# Altium footprint library PcbLib1.PcbLib: 18 footprints (part 1 of 2)
Each footprint in its own frame and in the unit in brackets; x right, y up, seen from the top. Pads: shape width x height; smd on the part's side, far side on the other; paste and mask are expansions set on the pad; w line width, h text height; cw(c..) or ccw(c..) is an arc to the next point about the centre after c.
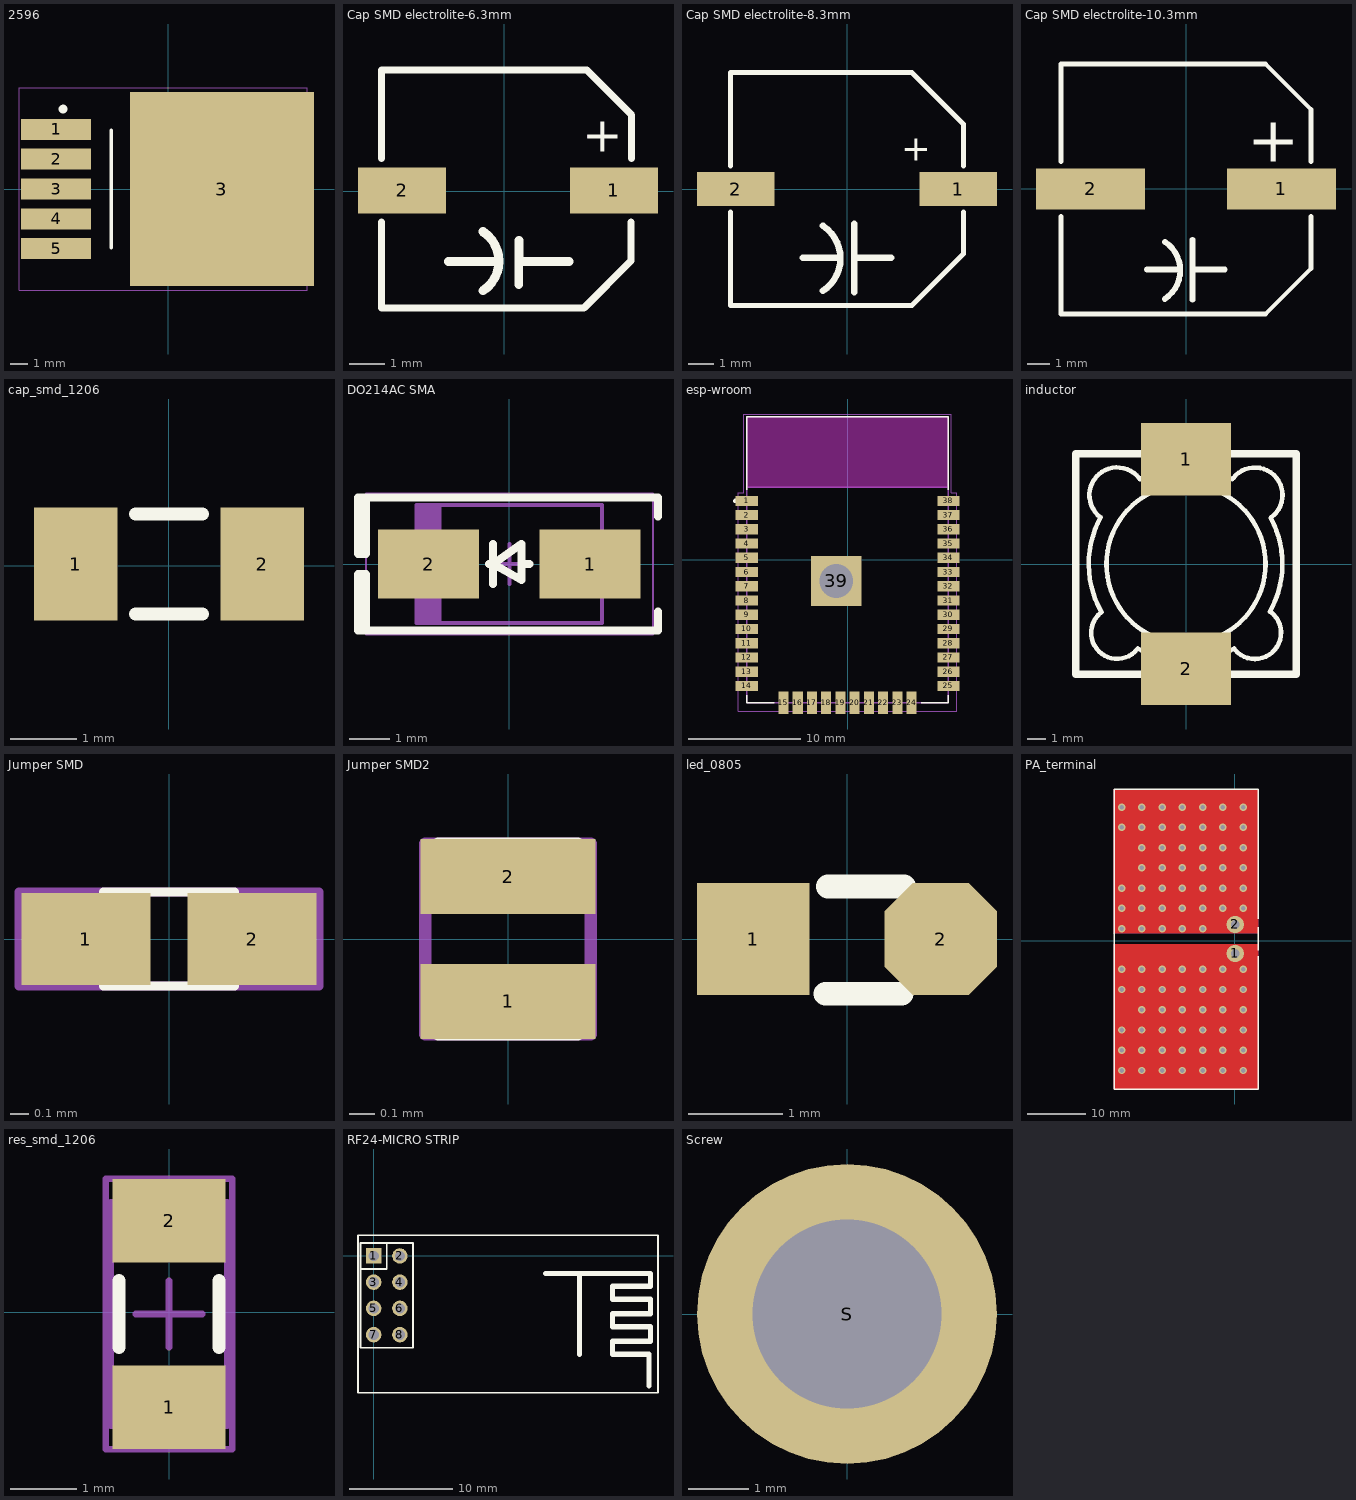
[diagram p0: the footprints below, top view; thin cyan lines are the x and y axes]

## 2596 [mm]
pads (6):
  rect 4x1.2 smd: 1(-6.4,3.4) 2(-6.4,1.7) 3(-6.4,0) 4(-6.4,-1.7) 5(-6.4,-3.4)
  rect 10.5x11.05 smd: 3(3.048,0)
Top Overlay:
  circle w0.25: c-6,4.55 r0.125
  lines w0.2: -3.25,-3.35 -3.25,3.35
Mechanical 13:
  lines w0.1: -2.05,-3.35 -2.05,3.35 4.15,3.35 4.15,-3.35 -2.05,-3.35
Mechanical 15:
  lines w0.05: -8.509,-5.775 -8.509,5.775 7.9,5.775 7.9,-5.775 -8.509,-5.775
  lines w0.1: -0.5,0 0.5,0 ; 0,-0.5 0,0.5
3D body: height 2.38, standoff 0, extent -2.05,-3.35 4.15,3.35

## Cap SMD electrolite-6.3mm [mm]
pads (2):
  rect 2.5x1.3 smd: 1(3.102,0.025) 2(-2.898,0.025)
Top Overlay:
  lines w0.2: -3.48,-0.875 -3.48,-3.302 2.261,-3.302 3.581,-1.981 3.581,-0.875 ; -3.48,0.925 -3.48,3.429 2.337,3.429 3.607,2.159 3.607,0.925
  lines w0.254: -1.588,-1.986 -0.238,-1.986 ; -0.61,-2.819 ccw(c-1.155,-1.981) -0.605,-1.146 ; 0.406,-2.642 0.41,-1.397 ; 0.492,-1.986 1.832,-1.986
  text "+" at 2.202,1.125 h1
3D body "CAP ALUM 6_6mm.STEP": height 7.7, standoff 0, extent -3.5,-3.224 3.5,3.376

## Cap SMD electrolite-8.3mm [mm]
pads (2):
  rect 3x1.3 smd: 1(4.293,0) 2(-4.293,0)
Top Overlay:
  lines w0.2: -4.5,-0.9 -4.5,-4.5 2.5,-4.5 4.5,-2.5 4.5,-0.9 ; -4.5,0.9 -4.5,4.5 2.5,4.5 4.5,2.5 4.5,0.9
  lines w0.254: -1.715,-2.647 -0.365,-2.647 ; -0.935,-3.937 ccw(c-1.753,-2.68) -0.927,-1.427 ; 0.285,-3.977 0.285,-1.337 ; 0.365,-2.647 1.705,-2.647
  text "+" at 2.1,1.1 h1
3D body "CAP ALUM 8_3mm.STEP": height 10.5, standoff 0, extent -5.077,-4.15 4.823,4.15

## Cap SMD electrolite-10.3mm [mm]
pads (2):
  rect 4.8x1.8 smd: 1(4.2,0) 2(-4.2,0)
Top Overlay:
  lines w0.2: -5.5,-1.2 -5.5,-5.5 3.5,-5.5 5.5,-3.5 5.5,-1.2 ; -5.5,1.2 -5.5,5.5 3.5,5.5 5.5,3.5 5.5,1.2
  lines w0.254: -1.715,-3.547 -0.365,-3.547 ; -0.935,-4.837 ccw(c-1.753,-3.58) -0.927,-2.327 ; 0.285,-4.877 0.285,-2.237 ; 0.365,-3.547 1.705,-3.547
  text "+" at 2.7,1.2 h2
3D body "CAP ALUM 10_3mm.STEP": height 10.5, standoff 0, extent -5.825,-5.099 5.775,5.201

## cap_smd_1206 [mm]
pads (2):
  rect 1.25x1.7 smd: 1(-1.395,0.025) 2(1.401,0.025)
Top Overlay:
  lines w0.2: -0.497,-0.725 0.503,-0.725 ; -0.497,0.775 0.503,0.775
3D body "cap 1206.STEP": height 0.75, standoff 0, extent -1.519,-0.75 1.529,0.774

## do214 [mm]

## DO214AC SMA [mm] "Molded Diode, 2-Leads, Body 4.30x2.60mm, IPC Medium Density"
height 2.4
pads (2):
  rect 2.5x1.7 smd: 1(2,0) 2(-2,0)
Top Overlay:
  lines w0.2: -3.556,-1.651 -3.556,-0.254 -3.75,-0.254 -3.75,-1.651 3.683,-1.651 3.683,-1.175 ; -3.556,1.651 -3.556,0.254 -3.75,0.254 -3.75,1.651 3.683,1.651 3.683,1.175 ; -0.5,0 -0.4,0 ; -0.4,-0.5 -0.4,0.5 ; 0.3,0 0.5,0 ; -0.4,0 0.3,-0.4 0.3,0.5 -0.4,0
Mechanical 13:
  region: -1.681,1.46 -2.3,1.46 -2.3,-1.46 -1.681,-1.46
  lines w0.1: -2.3,-1.46 -2.3,1.46 2.3,1.46 2.3,-1.46 -2.3,-1.46
Mechanical 15:
  lines w0.05: -3.556,-1.75 -3.556,1.75 3.556,1.75 3.556,-1.75 -3.556,-1.75
  lines w0.1: -0.5,0 0.5,0 ; 0,-0.5 0,0.5
3D body "SMA.STEP": height 2.4, standoff 0, extent -2.6,-1.375 2.6,1.375

## esp-wroom [mm]
pads (39):
  rect 2x0.9 smd: 1(-9,5.26) 2(-9,3.99) 3(-9,2.72) 4(-9,1.45) 5(-9,0.18) 6(-9,-1.09) 7(-9,-2.36) 8(-9,-3.63) 9(-9,-4.9) 10(-9,-6.17) 11(-9,-7.44) 12(-9,-8.71) 13(-9,-9.98) 14(-9,-11.25) 25(9,-11.25) 26(9,-9.98) 27(9,-8.71) 28(9,-7.44) 29(9,-6.17) 30(9,-4.9) 31(9,-3.63) 32(9,-2.36) 33(9,-1.09) 34(9,0.18) 35(9,1.45) 36(9,2.72) 37(9,3.99) 38(9,5.26)
  rect 0.9x2 smd: 15(-5.715,-12.75) 16(-4.445,-12.75) 17(-3.175,-12.75) 18(-1.905,-12.75) 19(-0.635,-12.75) 20(0.635,-12.75) 21(1.905,-12.75) 22(3.175,-12.75) 23(4.445,-12.75) 24(5.715,-12.75)
  rect 4.5x4.5 hole 3 mask+0.05: 39(-1,-1.89)
Top Overlay:
  circle w0.2: c-10,5.25 r0.1
  lines w0.127: -9,-12.1 -9,-12.75 -6.55,-12.75 ; -9,6.25 -9,12.75 9,12.75 9,6.25 ; 6.55,-12.75 9,-12.75 9,-12.1
Keep-Out Layer:
  region: 9,6.45 -9,6.45 -9,12.75 9,12.75
  region: 9,6.45 -9,6.45 -9,12.75 9,12.75
Mechanical 13:
  circle w0.2: c-10,5.25 r0.1
  lines w0.127: -9,6.45 -9,-12.75 9,-12.75 9,6.45 ; -9,6.45 -9,12.75 9,12.75 9,6.45 ; -9,6.45 9,6.45
  text "ANTENNA" at -6,9 h1
Mechanical 15:
  lines w0.05: -9.75,-13.5 9.75,-13.5 9.75,6 9.25,6 9.25,13 -9.25,13 -9.25,6 -9.75,6 -9.75,-13.5
3D body "ESP32-WROOM-32D--3DModel-STEP-56544.STEP": height 3.25, standoff 0, extent -8.975,-12.75 9.025,12.75

## inductor [mm]
pads (2):
  rect 5x4 smd: 1(0,5.8) 2(0,-5.8)
Top Overlay:
  circle w0.254: c0,0 r4.401
  lines w0.254: -4.752,2.599 cw(c-3.81,3.81) -2.595,4.747 ; -4.722,2.582 ccw(c0,0) -4.675,-2.666 ; -4.692,-2.676 ccw(c-3.81,-3.81) -2.688,-4.708 ; -2.669,-4.674 ccw(c0,0) 2.667,-4.675 ; -2.565,4.692 cw(c0,0) 2.57,4.689 ; 2.603,4.749 cw(c3.81,3.81) 4.687,2.557 ; 2.711,-4.752 ccw(c3.81,-3.81) 4.715,-2.679 ; 4.639,-2.636 ccw(c0,0) 4.684,2.555
  lines w0.4: -6.1,-6.1 -6.1,6.1 6.1,6.1 6.1,-6.1 -6.1,-6.1
3D body "SUMIDA-CDRH127-DEFAULT.STEP": height 7.5, standoff 0.05, extent -6,-6.171 6,6.171

## Jumper SMD [mm]
pads (2):
  rect 0.7x0.5 smd: 1(-0.45,0) 2(0.45,0)
Top Overlay:
  lines w0.05: -0.356,-0.254 0.356,-0.254 ; -0.356,0.254 0.356,0.254
Top Solder:
  rectangle: -0.45,-0.254 0.45,0.254
Mechanical 13:
  lines w0.05: -0.457,-0.254 0.457,-0.254 0.457,0.254 -0.457,0.254 -0.457,-0.254
Mechanical 15:
  lines w0.05: -0.813,-0.254 0.813,-0.254 0.813,0.254 -0.813,0.254 -0.813,-0.254

## Jumper SMD2 [mm]
pads (2):
  rect 0.7x0.3 smd: 1(0,-0.25) 2(0,0.25)
Top Overlay:
  lines w0.05: -0.279,-0.381 0.279,-0.381 ; -0.279,0.381 0.279,0.381
Top Solder:
  rectangle: -0.35,-0.4 0.35,0.4
Mechanical 13:
  lines w0.05: -0.33,-0.229 -0.33,0.254 0.33,0.254 0.33,-0.229 -0.33,-0.229
Mechanical 15:
  lines w0.05: -0.33,-0.381 -0.33,0.381 0.33,0.381 0.33,-0.381 -0.33,-0.381

## led_0805 [mm]
pads (2):
  rect 1.2x1.2 smd: 1(-1,0)
  oct 1.2x1.2 smd: 2(1,0)
Top Overlay:
  lines w0.254: -0.229,-0.584 0.584,-0.584 ; -0.203,0.559 0.61,0.559
3D body "LED-0805.step": height 1.1, standoff 0, extent -1.01,-0.625 1.01,0.625

## PA_terminal [mm]
pads (2):
  round 3 hole 1.5: 1(0.048,-2.211) 2(0.048,2.789)
via -19.577,-22.436 diameter 1.27 hole 0.8
via -19.577,-18.936 diameter 1.27 hole 0.8
via -19.577,-15.436 diameter 1.27 hole 0.8
via -19.577,-8.436 diameter 1.27 hole 0.8
via -19.577,-4.936 diameter 1.27 hole 0.8
via -16.077,-22.436 diameter 1.27 hole 0.8
via -16.077,-18.936 diameter 1.27 hole 0.8
via -16.077,-15.436 diameter 1.27 hole 0.8
via -16.077,-11.936 diameter 1.27 hole 0.8
via -16.077,-8.436 diameter 1.27 hole 0.8
via -16.077,-4.936 diameter 1.27 hole 0.8
via -12.577,-22.436 diameter 1.27 hole 0.8
via -12.577,-18.936 diameter 1.27 hole 0.8
via -12.577,-15.436 diameter 1.27 hole 0.8
via -12.577,-11.936 diameter 1.27 hole 0.8
via -12.577,-8.436 diameter 1.27 hole 0.8
via -12.577,-4.936 diameter 1.27 hole 0.8
via -9.077,-22.436 diameter 1.27 hole 0.8
via -9.077,-18.936 diameter 1.27 hole 0.8
via -9.077,-15.436 diameter 1.27 hole 0.8
via -9.077,-11.936 diameter 1.27 hole 0.8
via -9.077,-8.436 diameter 1.27 hole 0.8
via -9.077,-4.936 diameter 1.27 hole 0.8
via -5.577,-22.436 diameter 1.27 hole 0.8
via -5.577,-18.936 diameter 1.27 hole 0.8
via -5.577,-15.436 diameter 1.27 hole 0.8
via -5.577,-11.936 diameter 1.27 hole 0.8
via -5.577,-8.436 diameter 1.27 hole 0.8
via -5.577,-4.936 diameter 1.27 hole 0.8
via -2.077,-22.436 diameter 1.27 hole 0.8
via -2.077,-18.936 diameter 1.27 hole 0.8
via -2.077,-15.436 diameter 1.27 hole 0.8
via -2.077,-11.936 diameter 1.27 hole 0.8
via -2.077,-8.436 diameter 1.27 hole 0.8
via -2.077,-4.936 diameter 1.27 hole 0.8
via 1.423,-22.436 diameter 1.27 hole 0.8
via 1.423,-18.936 diameter 1.27 hole 0.8
via 1.423,-15.436 diameter 1.27 hole 0.8
via 1.423,-11.936 diameter 1.27 hole 0.8
via 1.423,-8.436 diameter 1.27 hole 0.8
via 1.423,-4.936 diameter 1.27 hole 0.8
via -19.577,2.064 diameter 1.27 hole 0.8
via -19.577,5.564 diameter 1.27 hole 0.8
via -19.577,9.064 diameter 1.27 hole 0.8
via -19.577,19.564 diameter 1.27 hole 0.8
via -19.577,23.064 diameter 1.27 hole 0.8
via -16.077,2.064 diameter 1.27 hole 0.8
via -16.077,5.564 diameter 1.27 hole 0.8
via -16.077,9.064 diameter 1.27 hole 0.8
via -16.077,12.564 diameter 1.27 hole 0.8
via -16.077,16.064 diameter 1.27 hole 0.8
via -16.077,19.564 diameter 1.27 hole 0.8
via -16.077,23.064 diameter 1.27 hole 0.8
via -12.577,2.064 diameter 1.27 hole 0.8
via -12.577,5.564 diameter 1.27 hole 0.8
via -12.577,9.064 diameter 1.27 hole 0.8
via -12.577,12.564 diameter 1.27 hole 0.8
via -12.577,16.064 diameter 1.27 hole 0.8
via -12.577,19.564 diameter 1.27 hole 0.8
via -12.577,23.064 diameter 1.27 hole 0.8
via -9.077,2.064 diameter 1.27 hole 0.8
via -9.077,5.564 diameter 1.27 hole 0.8
via -9.077,9.064 diameter 1.27 hole 0.8
via -9.077,12.564 diameter 1.27 hole 0.8
via -9.077,16.064 diameter 1.27 hole 0.8
via -9.077,19.564 diameter 1.27 hole 0.8
via -9.077,23.064 diameter 1.27 hole 0.8
via -5.577,2.064 diameter 1.27 hole 0.8
via -5.577,5.564 diameter 1.27 hole 0.8
via -5.577,9.064 diameter 1.27 hole 0.8
via -5.577,12.564 diameter 1.27 hole 0.8
via -5.577,16.064 diameter 1.27 hole 0.8
via -5.577,19.564 diameter 1.27 hole 0.8
via -5.577,23.064 diameter 1.27 hole 0.8
via -2.077,5.564 diameter 1.27 hole 0.8
via -2.077,9.064 diameter 1.27 hole 0.8
via -2.077,12.564 diameter 1.27 hole 0.8
via -2.077,16.064 diameter 1.27 hole 0.8
via -2.077,19.564 diameter 1.27 hole 0.8
via -2.077,23.064 diameter 1.27 hole 0.8
via 1.423,5.564 diameter 1.27 hole 0.8
via 1.423,9.064 diameter 1.27 hole 0.8
via 1.423,12.564 diameter 1.27 hole 0.8
via 1.423,16.064 diameter 1.27 hole 0.8
via 1.423,19.564 diameter 1.27 hole 0.8
via 1.423,23.064 diameter 1.27 hole 0.8
Top Layer:
  rectangle: -20.952,1.189 4.048,26.189
  rectangle: -20.952,-25.586 4.048,-0.586
Bottom Layer:
  rectangle: -20.952,1.189 4.048,26.189
  rectangle: -20.952,-25.586 4.048,-0.586
Top Overlay:
  lines w0.254: 3.985,-2.704 3.985,-25.629 -20.879,-25.629 -20.879,26.189 3.985,26.189 3.985,3.796 ; 3.985,-1.704 3.985,2.296

## res_smd_1206 [mm]
pads (2):
  rect 1.7x1.25 smd: 1(0,-1.426) 2(0,1.37)
Top Overlay:
  lines w0.2: -0.75,-0.528 -0.75,0.472 ; 0.75,-0.528 0.75,0.472
Mechanical 13:
  lines w0.1: -0.875,-1.703 0.875,-1.703 0.875,1.647 -0.875,1.647 -0.875,-1.703
Mechanical 15:
  lines w0.1: -0.5,-0.028 0.5,-0.028 ; 0,-0.528 0,0.472 ; -0.95,-2.053 0.95,-2.053 0.95,1.997 -0.95,1.997 -0.95,-2.053
3D body "1206.STEP": height 0.6, standoff 0, extent -0.762,-1.552 0.762,1.496

## RF24-MICRO STRIP [mm]
pads (8):
  rect 1.5x1.5 hole 1: 1(0,0)
  round 1.5 hole 1: 2(2.54,0) 3(0,-2.54) 4(2.54,-2.54) 5(0,-5.08) 6(2.54,-5.08) 7(0,-7.62) 8(2.54,-7.62)
Top Overlay:
  lines w0.178: -1.27,-1.27 1.27,-1.27 1.27,1.27 ; -1.52,-13.24 27.53,-13.24 27.53,2 -1.52,2 -1.52,-13.24 ; -1.27,-8.89 3.81,-8.89 3.81,1.27 -1.27,1.27 -1.27,-8.89
  lines w0.508: 16.637,-1.7 20,-1.7 ; 19.939,-9.525 19.939,-1.7 20,-1.7 ; 26.67,-12.573 26.67,-9.525 23.114,-9.525 23.114,-8.255 26.797,-8.255 26.797,-6.858 23.114,-6.858 23.114,-5.588 26.797,-5.588 26.797,-4.191 23.114,-4.191 23.114,-2.921 26.797,-2.921 26.797,-1.7 20,-1.7

## Screw [mm]
pads (1):
  round 5 hole 3.15 mask+0.1: S(0,0)